# EAGLE library part ARDUINO_NANO (library Group Electornics Library v80)
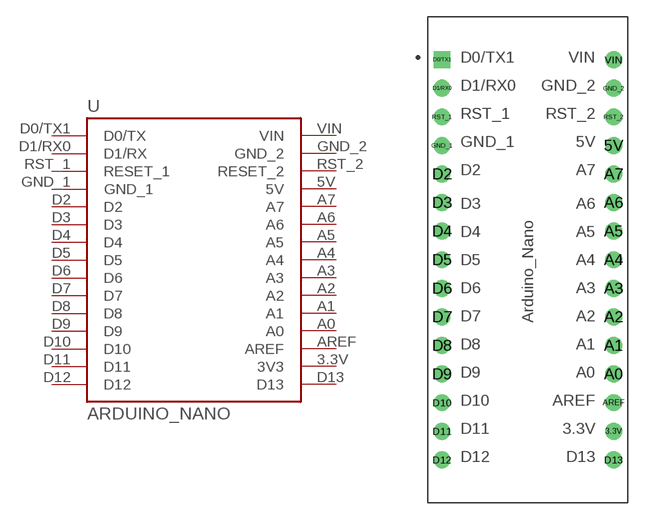
[diagram p7: symbol with the pads of ARDUINO_NANO; footprint ARDUINO_NANO]

Designator prefix -

## ARDUINO_NANO  [ARDUINO_NANO]
3.3V  3V3  pwr
5V  5V  pwr
A0  A0  in
A1  A1  in
A2  A2  in
A3  A3  in
A4  A4  in
A5  A5  in
A6  A6  in
A7  A7  in
AREF  AREF  in
D0/TX1  D0/TX
D1/RX0  D1/RX
D2  D2
D3  D3
D4  D4
D5  D5
D6  D6
D7  D7
D8  D8
D9  D9
D10  D10
D11  D11
D12  D12
D13  D13
GND_1  GND_1  pwr
GND_2  GND_2  pwr
RST_1  RESET_1  in
RST_2  RESET_2  in
VIN  VIN  pwr

## Footprint ARDUINO_NANO (pad centres in mm)
drill 1: 3.3V 7.62,-14.74; 5V 7.62,10.66; A0 7.62,-9.66; A1 7.62,-7.12; A2 7.62,-4.58; A3 7.62,-2.04; A4 7.62,0.5; A5 7.62,3.04; A6 7.62,5.58; A7 7.62,8.12; AREF 7.62,-12.2; D1/RX0 -7.62,15.74; D2 -7.62,8.12; D3 -7.62,5.58; D4 -7.62,3.04; D5 -7.62,0.5; D6 -7.62,-2.04; D7 -7.62,-4.58; D8 -7.62,-7.12; D9 -7.62,-9.66; D10 -7.62,-12.2; D11 -7.62,-14.74; D12 -7.62,-17.28; D13 7.62,-17.28; GND_1 -7.62,10.66; GND_2 7.62,15.74; RST_1 -7.62,13.2; RST_2 7.62,13.2; VIN 7.62,18.28
drill 1 square: D0/TX1 -7.62,18.28